# Altium footprint library 215079-4.PcbLib: 1 footprints
Each footprint in its own frame and in the unit in brackets; x right, y up, seen from the top. Pads: shape width x height; smd on the part's side, far side on the other; paste and mask are expansions set on the pad; w line width, h text height; cw(c..) or ccw(c..) is an arc to the next point about the centre after c.
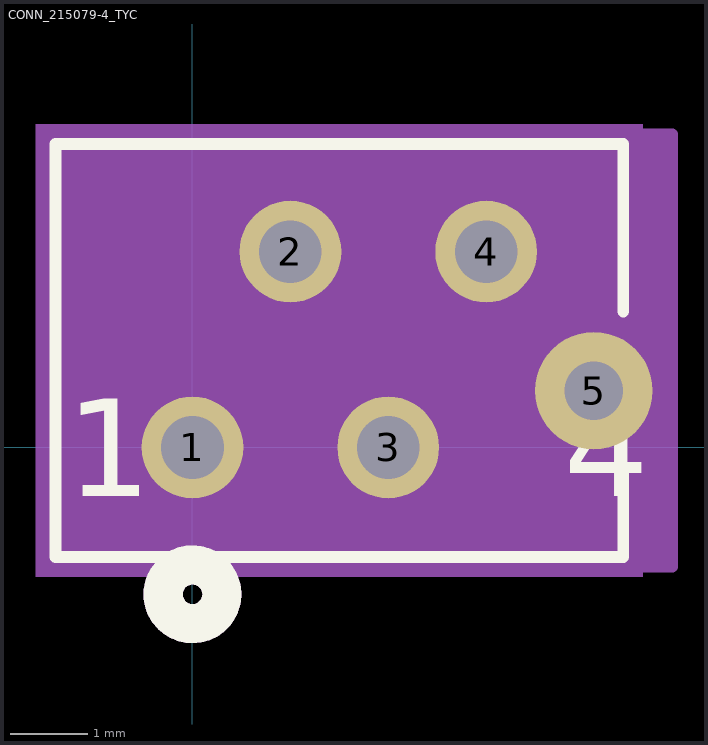
[diagram p0: the footprint, top view; thin cyan lines are the x and y axes]

## CONN_215079-4_TYC [mil]
pads (5):
  round 52 hole 32 mask+0: 1(0,0) 2(50,100) 3(100,0) 4(150,100)
  round 60 hole 30: 5(205,29)
Top Overlay:
  circle w20: c0,-75 r15
  lines w6: 220,-11.41 220,-56 -70,-56 -70,155 220,155 220,69.41
  text "4" at 189.5,-25 h50
  text "4" at 189.5,-25 h50
  text "1" at -64.5,-25 h50
  text "1" at -64.5,-25 h50
Bottom Overlay:
  circle w20: c0,-75 r15
  text "4" at 214.5,-25 h50
  text "4" at 214.5,-25 h50
  text "1" at -39.5,-25 h50
  text "1" at -39.5,-25 h50
Mechanical 5:
  region: -80,165 230,165 230,-66 -80,-66
Mechanical 13:
  circle w20: c0,-75 r15
  lines w1: -65,-51 -65,150 215,150 215,-51 -65,-51
  text "4" at 189.5,-25 h50
  text "4" at 189.5,-25 h50
  text "1" at -64.5,-25 h50
  text "1" at -64.5,-25 h50
Mechanical 15:
  region: 245,160 -75,160 -75,-61 245,-61
  lines w6: -75,-61 245,-61 245,160 -75,160 -75,-61
3D body "c-215079-4-t-3d.stp": height 160, standoff -121.5, extent -63.58,-48.43 213.58,148.43
3D body: height 10, standoff 0, extent 0,0 10,10